# EAGLE library part ARDUINO-PRO-MINI-NOPROG (library micromouse-timer)
Arduino Pro mini with no programming or 'extra' pins
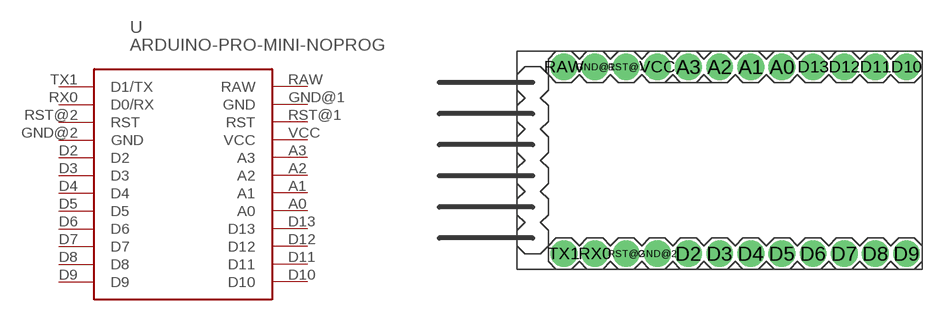
[diagram p14: symbol with the pads of ARDUINO-PRO-MINI-NOPROG; footprint ARDUINO-PRO-MINI-NOPROG]

Designator prefix -

## ARDUINO-PRO-MINI-NOPROG  [ARDUINO-PRO-MINI-NOPROG]
A0  A0
A1  A1
A2  A2
A3  A3
D2  D2
D3  D3
D4  D4
D5  D5
D6  D6
D7  D7
D8  D8
D9  D9
D10  D10
D11  D11
D12  D12
D13  D13
GND@1  GND  pwr
GND@2  GND  pwr
RAW  RAW  pwr
RST@1  RST
RST@2  RST
RX0  D0/RX
TX1  D1/TX
VCC  VCC  pwr

## Footprint ARDUINO-PRO-MINI-NOPROG (pad centres in mm)
Arduino Pro Mini with no programming pads
drill 1 pad 2.184: A0 5.08,7.62; A1 2.54,7.62; A2 0,7.62; A3 -2.54,7.62; D2 -2.54,-7.62; D3 0,-7.62; D4 2.54,-7.62; D5 5.08,-7.62; D6 7.62,-7.62; D7 10.16,-7.62; D8 12.7,-7.62; D9 15.24,-7.62; D10 15.24,7.62; D11 12.7,7.62; D12 10.16,7.62; D13 7.62,7.62; GND@1 -10.16,7.62; GND@2 -5.08,-7.62; RAW -12.7,7.62; RST@1 -7.62,7.62; RST@2 -7.62,-7.62; RX0 -10.16,-7.62; TX1 -12.7,-7.62; VCC -5.08,7.62